# Altium schematic symbol library BM02B-SRSS-TB_LF__SN_.SCHLIB: 1 symbol
Pins are listed as number, name and electrical type; pins without a type are passive.

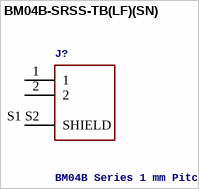
[diagram p0: symbol BM04B-SRSS-TB(LF)(SN)]

## BM04B-SRSS-TB(LF)(SN)
designator J?, comment BM04B Series 1 mm Pitch 4 Position SMT Single Row Top Entry Shrouded Header Check availability
GateName_1: G$1; SymbolName_1: BM04B-SRSS-TB(LF)(SN); MF: JST Sales; LibraryName: BM02B-SRSS-TB_LF__SN_; DeviceSetName: BM04B-SRSS-TB(LF)(SN); Availability: In Stock; Price: None; MP: BM04B-SRSS-TB(LF)(SN); Package: None; Purchase-URL: https://pricing.snapeda.com/search/part/BM04B-SRSS-TB(LF)(SN)/?ref=eda
footprint CONN_BM04B-SRSS-TB(LF)(SN)
pins: 1, 2, S1 S2 SHIELD